# Altium schematic symbol library Voltage supply of sEMG & ADC.SchLib: 14 symbols
Pins are listed as number, name and electrical type; pins without a type are passive.

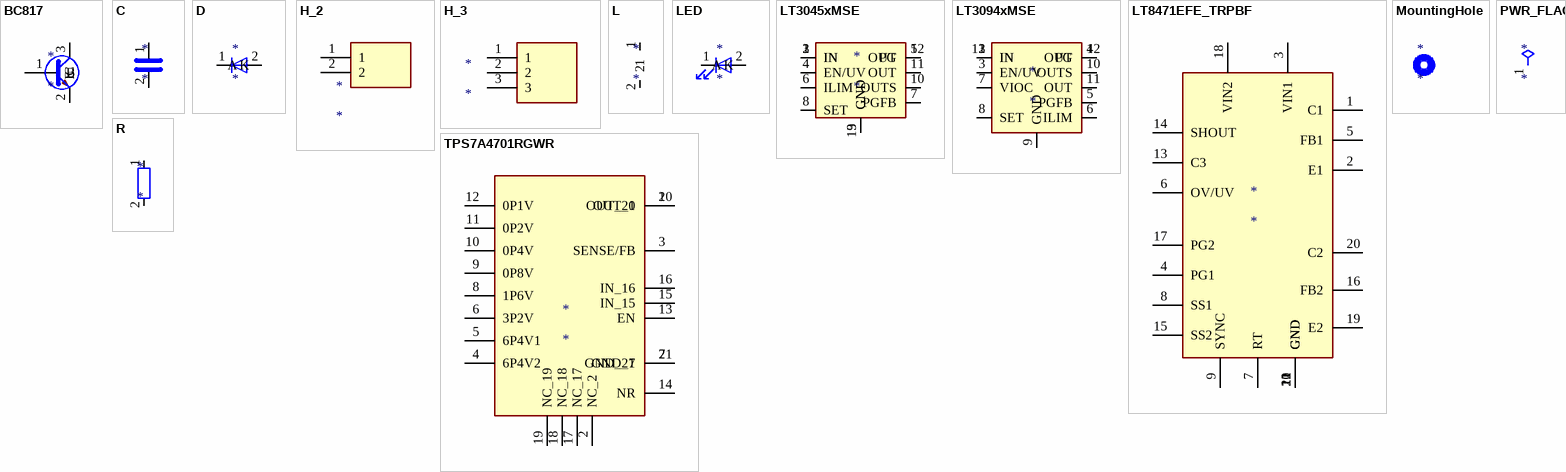
[diagram p0: symbols BC817 to TPS7A4701RGWR]

## BC817
designator *
pins: 1 B, 2 E, 3 C

## C
designator *
pins: 1, 2

## D
designator *
pins: 1 K, 2 A

## H_2
designator *
pins: 1, 2

## H_3
designator *
pins: 1, 2, 3

## L
designator *
pins: 1, 2

## LED
designator *
pins: 1 K, 2 A

## LT3045xMSE
designator *
pins: 1 IN, 2 IN, 3 IN, 4 EN/UV, 5 PG, 6 ILIM, 7 PGFB, 8 SET, 9 GND, 10 OUTS, 11 OUT, 12 OUT, 13 GND

## LT3094xMSE
designator *
pins: 1 IN, 2 IN, 3 EN/UV, 4 PG, 5 PGFB, 6 ILIM, 7 VIOC, 8 SET, 9 GND, 10 OUTS, 11 OUT, 12 OUT, 13 IN

## LT8471EFE_TRPBF
designator *
pins: 1 C1, 2 E1, 3 VIN1, 4 PG1, 5 FB1, 6 OV/UV, 7 RT, 8 SS1, 9 SYNC, 10 GND, 11 GND, 12 GND, 13 C3, 14 SHOUT, 15 SS2, 16 FB2, 17 PG2, 18 VIN2, 19 E2, 20 C2, 21 GND

## MountingHole
designator *

## PWR_FLAG
designator *  (graphical)
pins: 1

## R
designator *
pins: 1, 2

## TPS7A4701RGWR
designator *
pins: 1 OUT_1, 2 NC_2, 3 SENSE/FB, 4 6P4V2, 5 6P4V1, 6 3P2V, 7 GND_7, 8 1P6V, 9 0P8V, 10 0P4V, 11 0P2V, 12 0P1V, 13 EN, 14 NR, 15 IN_15, 16 IN_16, 17 NC_17, 18 NC_18, 19 NC_19, 20 OUT_20, 21 GND_21